# EAGLE library part PINH2X05 (library pinhead_smd)
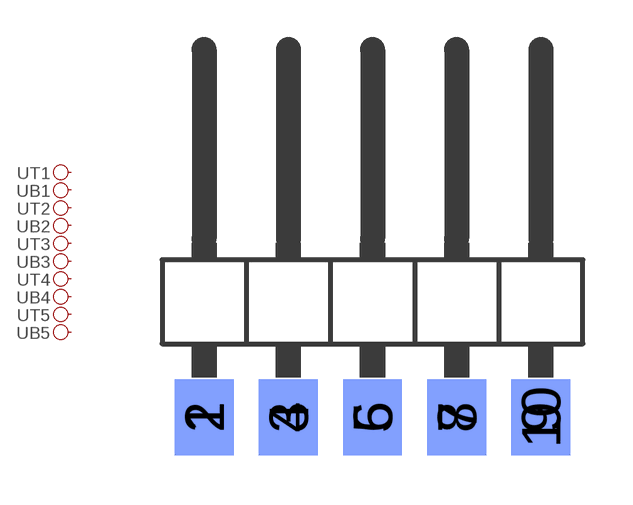
[diagram p2: symbol with the pads of PINH2X05SMD; footprint PINH2X05SMD]

Designator prefix -; gates T1=PINH1X01 T2=PINH1X01 T3=PINH1X01 T4=PINH1X01 T5=PINH1X01 B1=PINH1X01 B2=PINH1X01 B3=PINH1X01 B4=PINH1X01 B5=PINH1X01

## PINH2X05  [PINH2X05SMD]
1  T1:1  pas
2  B1:1  pas
3  T2:1  pas
4  B2:1  pas
5  T3:1  pas
6  B3:1  pas
7  T4:1  pas
8  B4:1  pas
9  T5:1  pas
10  B5:1  pas

## Footprint PINH2X05SMD (pad centres in mm)
smd 1.778 x 2.286: 1 -5.08,-2.223; 3 -2.54,-2.223; 5 0,-2.223; 7 2.54,-2.223; 9 5.08,-2.223
smd 1.778 x 2.286 bottom: 2 -5.08,-2.223; 4 -2.54,-2.223; 6 0,-2.223; 8 2.54,-2.223; 10 5.08,-2.223